# Altium integrated library mbed_programmer.IntLib: 63 symbols
Pins are listed as number, name and electrical type; pins without a type are passive.

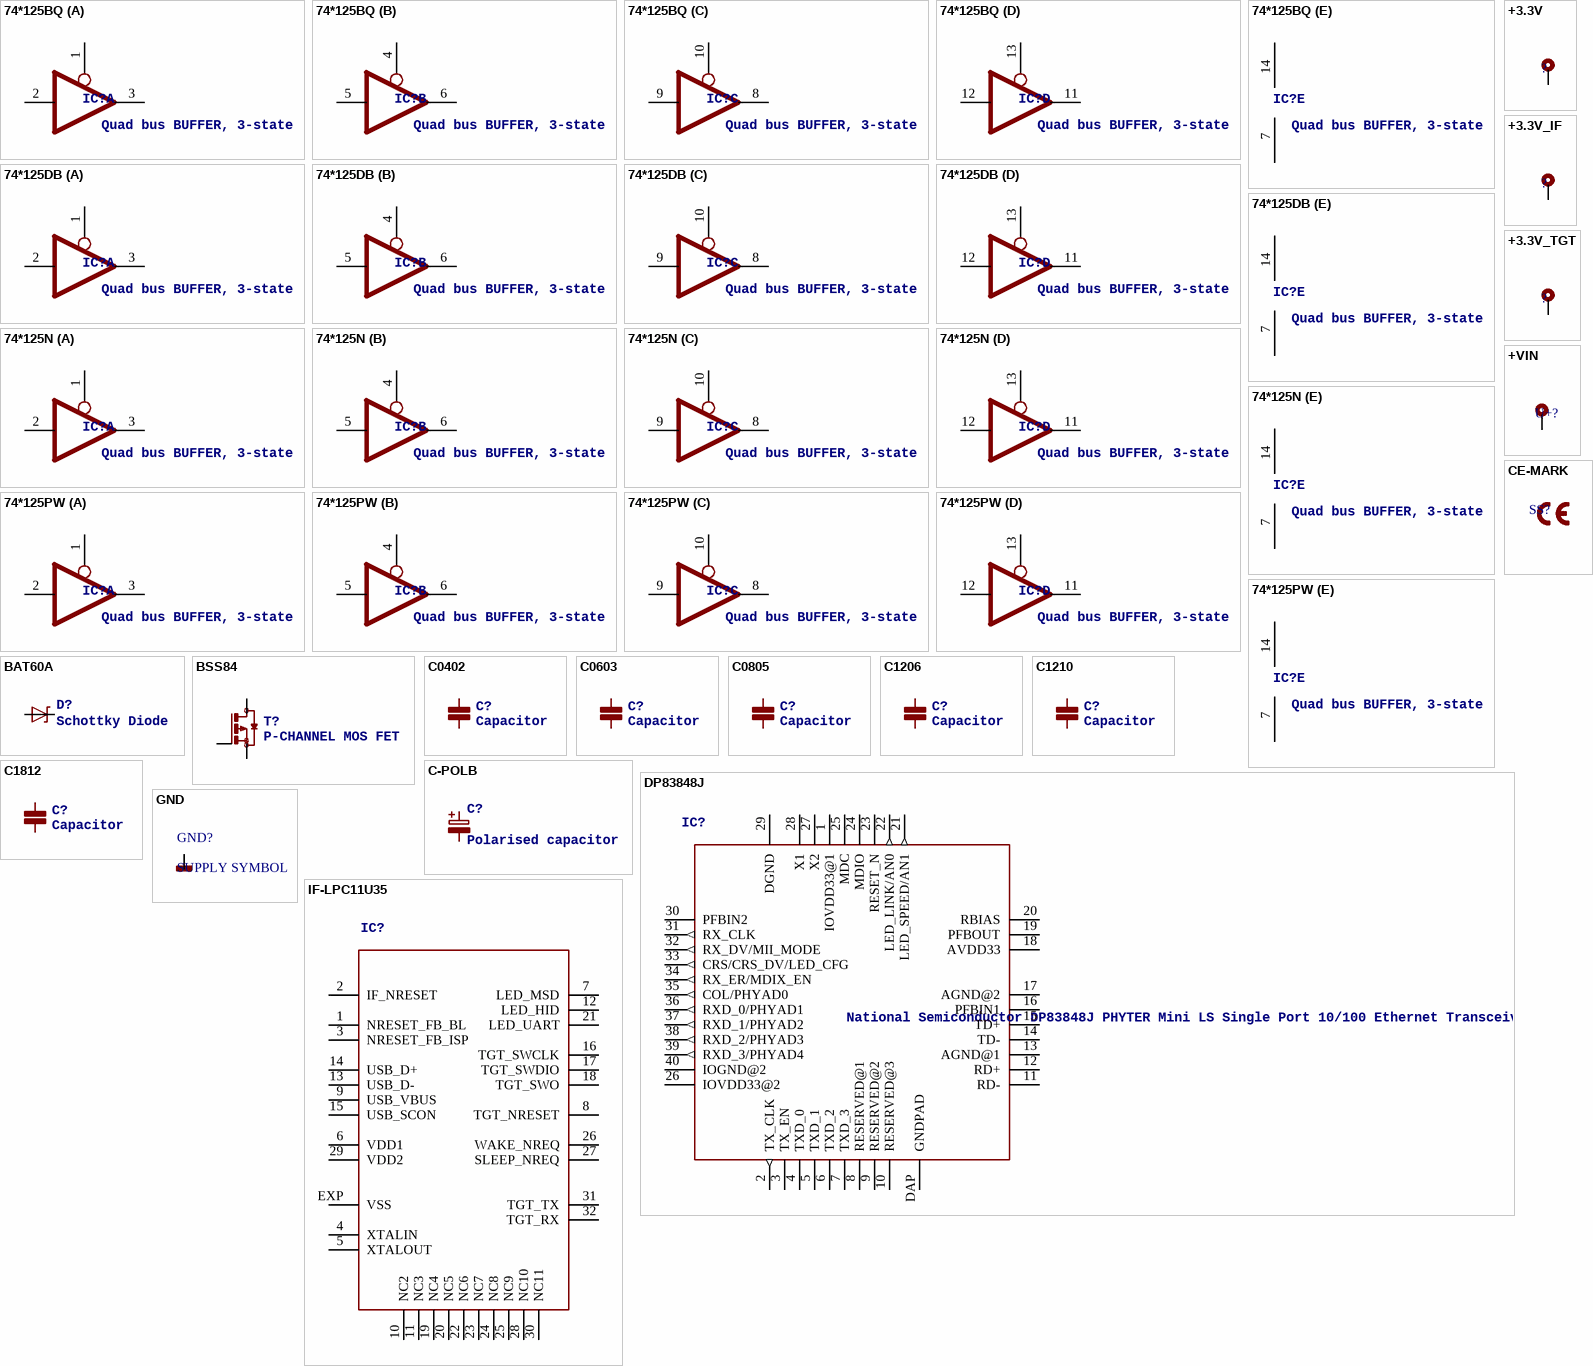
[diagram p0: symbols 74*125BQ to IF-LPC11U35]

## 74*125BQ
designator IC?, comment Quad bus BUFFER, 3-state
footprint DHVQFN14
part A pins: 1 OE, 2 I, 3 O (hiz)
part B pins: 4 OE, 5 I, 6 O (hiz)
part C pins: 8 O (hiz), 9 I, 10 OE
part D pins: 11 O (hiz), 12 I, 13 OE
part E pins: 7 GND (power), 14 VCC (power)

## 74*125DB
designator IC?, comment Quad bus BUFFER, 3-state
footprint SSOP14
part A pins: 1 OE, 2 I, 3 O (hiz)
part B pins: 4 OE, 5 I, 6 O (hiz)
part C pins: 8 O (hiz), 9 I, 10 OE
part D pins: 11 O (hiz), 12 I, 13 OE
part E pins: 7 GND (power), 14 VCC (power)

## 74*125N
designator IC?, comment Quad bus BUFFER, 3-state
footprint DIL14
part A pins: 1 OE, 2 I, 3 O (hiz)
part B pins: 4 OE, 5 I, 6 O (hiz)
part C pins: 8 O (hiz), 9 I, 10 OE
part D pins: 11 O (hiz), 12 I, 13 OE
part E pins: 7 GND (power), 14 VCC (power)

## 74*125PW
designator IC?, comment Quad bus BUFFER, 3-state
footprint TSSOP14
part A pins: 1 OE, 2 I, 3 O (hiz)
part B pins: 4 OE, 5 I, 6 O (hiz)
part C pins: 8 O (hiz), 9 I, 10 OE
part D pins: 11 O (hiz), 12 I, 13 OE
part E pins: 7 GND (power), 14 VCC (power)

## +3.3V
designator ?
pins: ?1 +3,3V (oe)

## +3.3V_IF
designator ?
pins: ?1 +3.3V_IF (oe)

## +3.3V_TGT
designator ?
pins: ?1 +3.3V_TGT (oe)

## +VIN
designator U+?
pins: ?1 +VIN (oe)

## BAT60A
designator D?, comment Schottky Diode
footprint BAT60A
pins: A, K

## BSS84
designator T?, comment P-CHANNEL MOS FET
footprint SOT23
pins: 1 G, 2 S, 3 D

## C0402
designator C?, comment Capacitor
footprint 0402
pins: 1 P$1, 2 P$2

## C0603
designator C?, comment Capacitor
footprint 0603
pins: 1 P$1, 2 P$2

## C0805
designator C?, comment Capacitor
footprint 0805
pins: 1 P$1, 2 P$2

## C1206
designator C?, comment Capacitor
footprint C1206
pins: 1 P$1, 2 P$2

## C1210
designator C?, comment Capacitor
footprint C1210
pins: 1 P$1, 2 P$2

## C1812
designator C?, comment Capacitor
footprint C1812
pins: 1 P$1, 2 P$2

## C-POLB
designator C?, comment Polarised capacitor
footprint CASE-B
pins: 1, 2

## CE-MARK
designator SS?
footprint CE-MARK-0.2

## DP83848J
designator IC?, comment National Semiconductor DP83848J PHYTER Mini LS Single Port 10/100 Ethernet Transceiver
footprint LLP-40
pins: 1 IOVDD33@1 (power), 2 TX_CLK (out), 3 TX_EN, 4 TXD_0, 5 TXD_1, 6 TXD_2, 7 TXD_3, 8 RESERVED@1, 9 RESERVED@2, 10 RESERVED@3, 11 RD-, 12 RD+, 13 AGND@1 (power), 14 TD-, 15 TD+, 16 PFBIN1, 17 AGND@2 (power), 18 AVDD33 (power), 19 PFBOUT, 20 RBIAS, 21 LED_SPEED/AN1 (out), 22 LED_LINK/AN0 (out), 23 RESET_N, 24 MDIO, 25 MDC, 26 IOVDD33@2 (power), 27 X2, 28 X1, 29 DGND (power), 30 PFBIN2, 31 RX_CLK (out), 32 RX_DV/MII_MODE (out), 33 CRS/CRS_DV/LED_CFG (out), 34 RX_ER/MDIX_EN (out), 35 COL/PHYAD0 (out), 36 RXD_0/PHYAD1 (out), 37 RXD_1/PHYAD2 (out), 38 RXD_2/PHYAD3 (out), 39 RXD_3/PHYAD4 (out), 40 IOGND@2 (power), DAP GNDPAD (power)

## GND
designator GND?, comment SUPPLY SYMBOL
pins: ?1 GND (oe)

## IF-LPC11U35
designator IC?
footprint HVQFN33
pins: 1 NRESET_FB_BL, 2 IF_NRESET, 3 NRESET_FB_ISP, 4 XTALIN, 5 XTALOUT, 6 VDD1, 7 LED_MSD, 8 TGT_NRESET, 9 USB_VBUS, 10 NC2, 11 NC3, 12 LED_HID, 13 USB_D-, 14 USB_D+, 15 USB_SCON, 16 TGT_SWCLK, 17 TGT_SWDIO, 18 TGT_SWO, 19 NC4, 20 NC5, 21 LED_UART, 22 NC6, 23 NC7, 24 NC8, 25 NC9, 26 WAKE_NREQ, 27 SLEEP_NREQ, 28 NC10, 29 VDD2, 30 NC11, 31 TGT_TX, 32 TGT_RX, EXP VSS

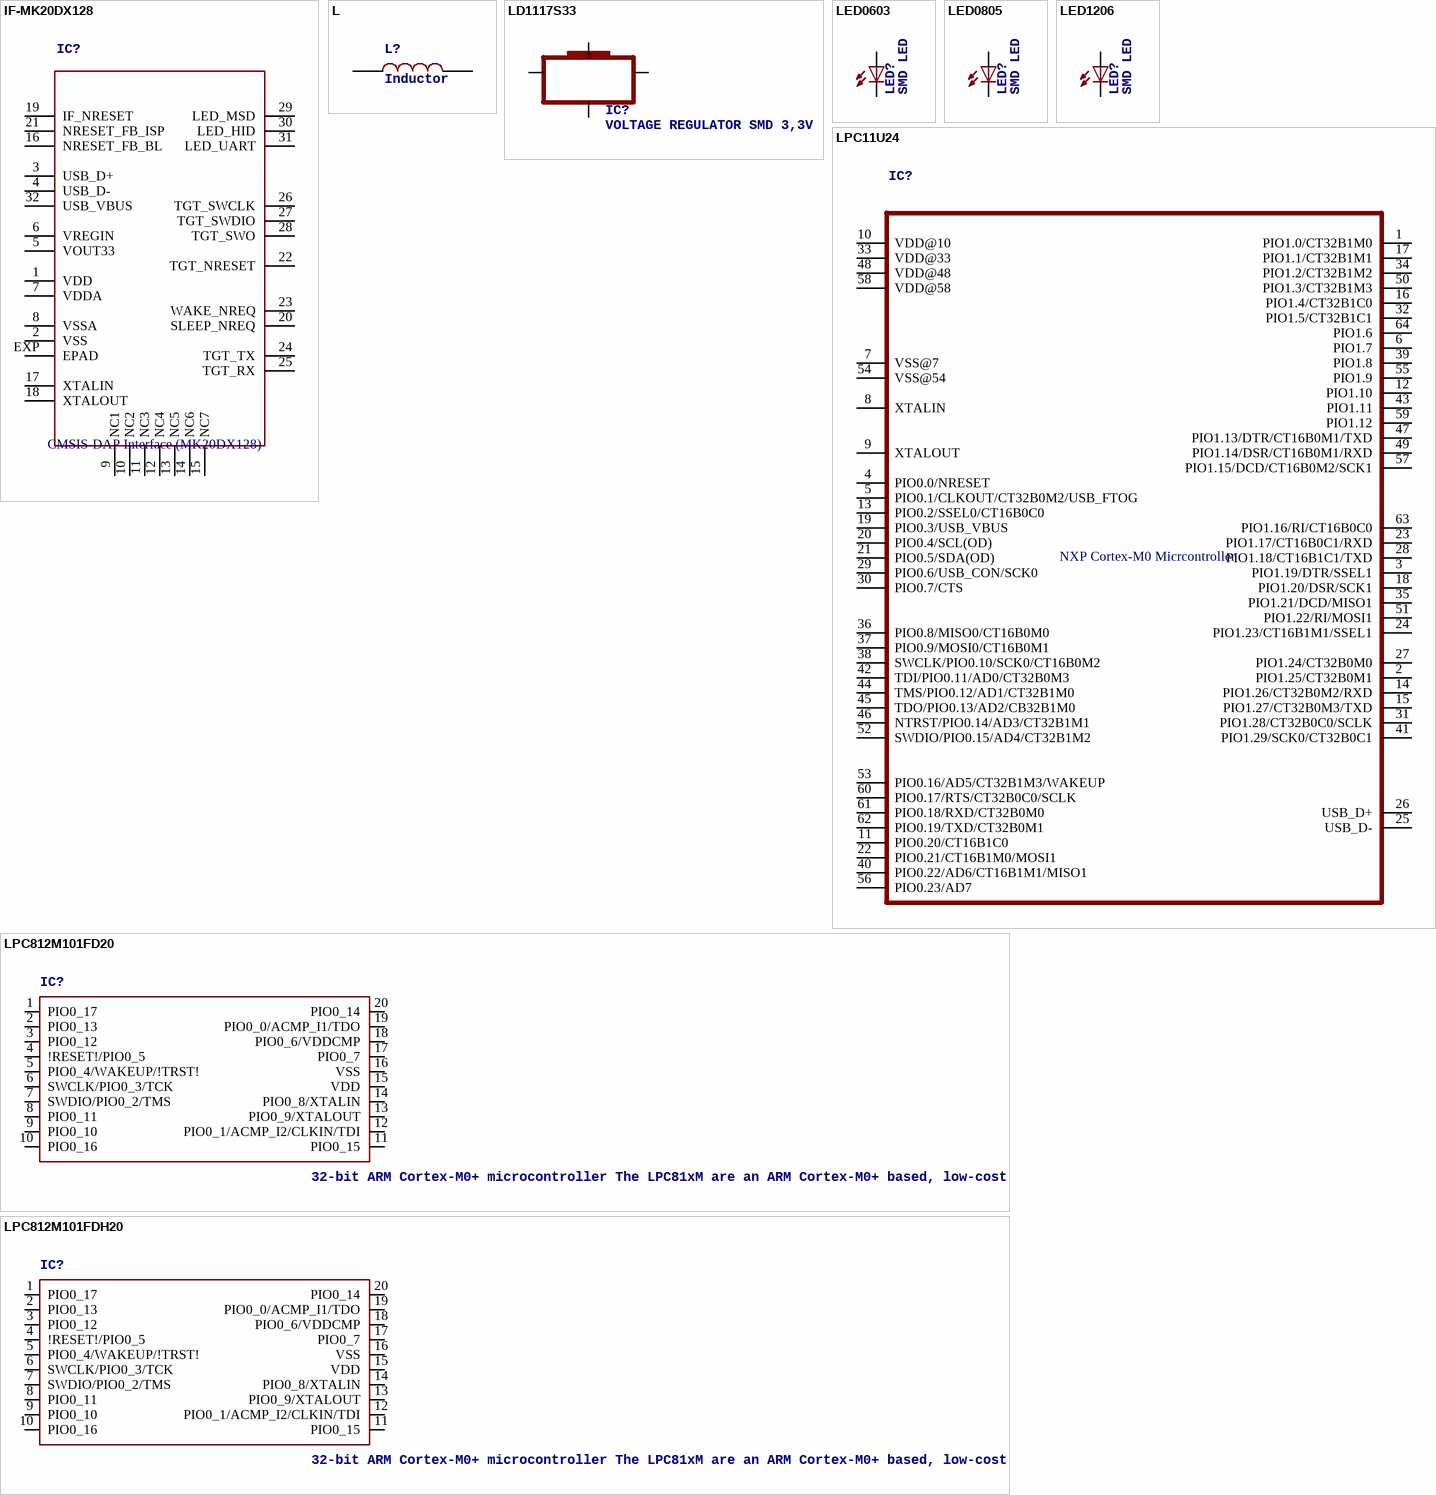
[diagram p1: symbols IF-MK20DX128 to LPC812M101FDH20]

## IF-MK20DX128
designator IC?, comment CMSIS-DAP Interface (MK20DX128)
footprint HVQFN33
pins: 1 VDD, 2 VSS, 3 USB_D+, 4 USB_D-, 5 VOUT33, 6 VREGIN, 7 VDDA, 8 VSSA, 9 NC1, 10 NC2, 11 NC3, 12 NC4, 13 NC5, 14 NC6, 15 NC7, 16 NRESET_FB_BL, 17 XTALIN, 18 XTALOUT, 19 IF_NRESET, 20 SLEEP_NREQ, 21 NRESET_FB_ISP, 22 TGT_NRESET, 23 WAKE_NREQ, 24 TGT_TX, 25 TGT_RX, 26 TGT_SWCLK, 27 TGT_SWDIO, 28 TGT_SWO, 29 LED_MSD, 30 LED_HID, 31 LED_UART, 32 USB_VBUS, EXP EPAD

## L
designator L?, comment Inductor
footprint 0603
pins: 1 P$1, 2 P$2

## LD1117S33
designator IC?, comment VOLTAGE REGULATOR SMD 3,3V
footprint SOT223
pins: 1 GND, 2 OUT, 3 IN, 4 K

## LED0603
designator LED?, comment SMD LED
footprint CHIPLED_0603
pins: A, C

## LED0805
designator LED?, comment SMD LED
footprint CHIPLED_0805
pins: A, C

## LED1206
designator LED?, comment SMD LED
footprint CHIPLED_1206
pins: A, C

## LPC11U24
designator IC?, comment NXP Cortex-M0 Micrcontroller
footprint MBED-ICS_LQFP64
pins: 1 PIO1.0/CT32B1M0, 2 PIO1.25/CT32B0M1, 3 PIO1.19/DTR/SSEL1, 4 PIO0.0/NRESET, 5 PIO0.1/CLKOUT/CT32B0M2/USB_FTOG, 6 PIO1.7, 7 VSS@7, 8 XTALIN, 9 XTALOUT, 10 VDD@10, 11 PIO0.20/CT16B1C0, 12 PIO1.10, 13 PIO0.2/SSEL0/CT16B0C0, 14 PIO1.26/CT32B0M2/RXD, 15 PIO1.27/CT32B0M3/TXD, 16 PIO1.4/CT32B1C0, 17 PIO1.1/CT32B1M1, 18 PIO1.20/DSR/SCK1, 19 PIO0.3/USB_VBUS, 20 PIO0.4/SCL(OD), 21 PIO0.5/SDA(OD), 22 PIO0.21/CT16B1M0/MOSI1, 23 PIO1.17/CT16B0C1/RXD, 24 PIO1.23/CT16B1M1/SSEL1, 25 USB_D-, 26 USB_D+, 27 PIO1.24/CT32B0M0, 28 PIO1.18/CT16B1C1/TXD, 29 PIO0.6/USB_CON/SCK0, 30 PIO0.7/CTS, 31 PIO1.28/CT32B0C0/SCLK, 32 PIO1.5/CT32B1C1, 33 VDD@33, 34 PIO1.2/CT32B1M2, 35 PIO1.21/DCD/MISO1, 36 PIO0.8/MISO0/CT16B0M0, 37 PIO0.9/MOSI0/CT16B0M1, 38 SWCLK/PIO0.10/SCK0/CT16B0M2, 39 PIO1.8, 40 PIO0.22/AD6/CT16B1M1/MISO1, 41 PIO1.29/SCK0/CT32B0C1, 42 TDI/PIO0.11/AD0/CT32B0M3, 43 PIO1.11, 44 TMS/PIO0.12/AD1/CT32B1M0, 45 TDO/PIO0.13/AD2/CB32B1M0, 46 NTRST/PIO0.14/AD3/CT32B1M1, 47 PIO1.13/DTR/CT16B0M1/TXD, 48 VDD@48, 49 PIO1.14/DSR/CT16B0M1/RXD, 50 PIO1.3/CT32B1M3, 51 PIO1.22/RI/MOSI1, 52 SWDIO/PIO0.15/AD4/CT32B1M2, 53 PIO0.16/AD5/CT32B1M3/WAKEUP, 54 VSS@54, 55 PIO1.9, 56 PIO0.23/AD7, 57 PIO1.15/DCD/CT16B0M2/SCK1, 58 VDD@58, 59 PIO1.12, 60 PIO0.17/RTS/CT32B0C0/SCLK, 61 PIO0.18/RXD/CT32B0M0, 62 PIO0.19/TXD/CT32B0M1, 63 PIO1.16/RI/CT16B0C0, 64 PIO1.6

## LPC812M101FD20
designator IC?, comment 32-bit ARM Cortex-M0+ microcontroller The LPC81xM are an ARM Cortex-M0+ based, low-cost 32-bit MCU family operating at CPU frequencies of up to 30 MHz. The LPC81xM support up to 16 kB of flash memory and 4 kB of SRAM. The peripheral complement of the LPC81xM includes a CRC engine, one I 2 C-bus interface, up to three USARTs, up to two SPI interfaces, one multi-rate timer, self wake-up timer, and state-configurable timer, one comparator, function-configurable I/O ports through a switch matrix, an input pattern match engine, and up to 18 general-purpose I/O pins.    AAL Eindhoven MK
COMP: 1; FLASH: 16k; GPIO: 18; SRAM: 4k; USART: 2; I2C: 1; SPI: 1
footprint SOT163-1
pins: 1 PIO0_17, 2 PIO0_13, 3 PIO0_12, 4 !RESET!/PIO0_5, 5 PIO0_4/WAKEUP/!TRST!, 6 SWCLK/PIO0_3/TCK, 7 SWDIO/PIO0_2/TMS, 8 PIO0_11, 9 PIO0_10, 10 PIO0_16, 11 PIO0_15, 12 PIO0_1/ACMP_I2/CLKIN/TDI, 13 PIO0_9/XTALOUT, 14 PIO0_8/XTALIN, 15 VDD (power), 16 VSS (power), 17 PIO0_7, 18 PIO0_6/VDDCMP, 19 PIO0_0/ACMP_I1/TDO, 20 PIO0_14

## LPC812M101FDH20
designator IC?, comment 32-bit ARM Cortex-M0+ microcontroller The LPC81xM are an ARM Cortex-M0+ based, low-cost 32-bit MCU family operating at CPU frequencies of up to 30 MHz. The LPC81xM support up to 16 kB of flash memory and 4 kB of SRAM. The peripheral complement of the LPC81xM includes a CRC engine, one I 2 C-bus interface, up to three USARTs, up to two SPI interfaces, one multi-rate timer, self wake-up timer, and state-configurable timer, one comparator, function-configurable I/O ports through a switch matrix, an input pattern match engine, and up to 18 general-purpose I/O pins.    AAL Eindhoven MK
COMP: 1; FLASH: 16k; GPIO: 18; SPI: 2; SRAM: 4k; USART: 3; I2C: 1
footprint SOT360
pins: 1 PIO0_17, 2 PIO0_13, 3 PIO0_12, 4 !RESET!/PIO0_5, 5 PIO0_4/WAKEUP/!TRST!, 6 SWCLK/PIO0_3/TCK, 7 SWDIO/PIO0_2/TMS, 8 PIO0_11, 9 PIO0_10, 10 PIO0_16, 11 PIO0_15, 12 PIO0_1/ACMP_I2/CLKIN/TDI, 13 PIO0_9/XTALOUT, 14 PIO0_8/XTALIN, 15 VDD (power), 16 VSS (power), 17 PIO0_7, 18 PIO0_6/VDDCMP, 19 PIO0_0/ACMP_I1/TDO, 20 PIO0_14

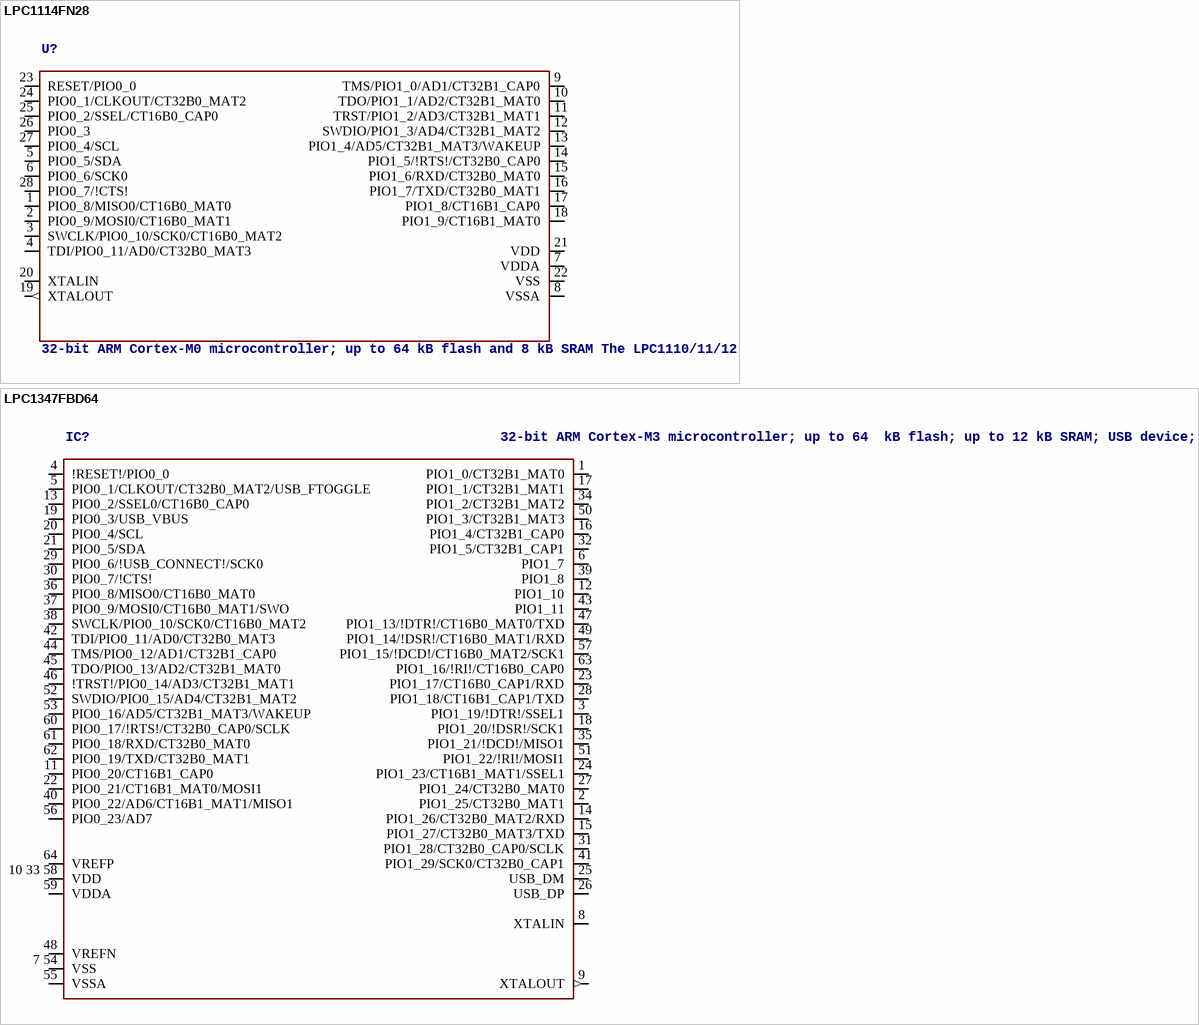
[diagram p2: symbols LPC1114FN28 to LPC1347FBD64]

## LPC1114FN28
designator U?, comment 32-bit ARM Cortex-M0 microcontroller; up to 64 kB flash and 8 kB SRAM The LPC1110/11/12/13/14/15 are a ARM Cortex-M0 based, low-cost 32-bit MCU family, designed for 8/16-bit microcontroller applications, offering performance, low power, simple instruction set and memory addressing together with reduced code size compared to existing 8/16-bit architectures. The LPC1110/11/12/13/14/15 operate at CPU frequencies of up to 50 MHz. The peripheral complement of the LPC1110/11/12/13/14/15 includes up to 64 kB of flash memory, up to 8 kB of data memory, one Fast-mode Plus I 2 C-bus interface, one RS-485/EIA-485 UART, up to two SPI interfaces with SSP features, four general purpose counter/timers, a 10-bit ADC, and up to 42 general purpose I/O pins. Remark: The LPC111x series consists of the LPC1100 series (parts LPC111x/101/201/301), LPC1100L series (parts LPC111x/002/102/202/302), and the LPC1100XL series (parts LPC111x/103/203/303/323/333). The LPC1100L and LPC1100XL series include the power profiles, a windowed watchdog timer, and a configurable open-drain mode.    AAL Eindhoven MK
ADC: 6; FLASH: 32kB; GPIO: 22; PWR_PROFILES: yes; SPI: 1; SRAM: 4kB; SERIES: LPC1100L
footprint SOT117
pins: 1 PIO0_8/MISO0/CT16B0_MAT0, 2 PIO0_9/MOSI0/CT16B0_MAT1, 3 SWCLK/PIO0_10/SCK0/CT16B0_MAT2, 4 TDI/PIO0_11/AD0/CT32B0_MAT3, 5 PIO0_5/SDA, 6 PIO0_6/SCK0, 7 VDDA (power), 8 VSSA (power), 9 TMS/PIO1_0/AD1/CT32B1_CAP0, 10 TDO/PIO1_1/AD2/CT32B1_MAT0, 11 TRST/PIO1_2/AD3/CT32B1_MAT1, 12 SWDIO/PIO1_3/AD4/CT32B1_MAT2, 13 PIO1_4/AD5/CT32B1_MAT3/WAKEUP, 14 PIO1_5/!RTS!/CT32B0_CAP0, 15 PIO1_6/RXD/CT32B0_MAT0, 16 PIO1_7/TXD/CT32B0_MAT1, 17 PIO1_8/CT16B1_CAP0, 18 PIO1_9/CT16B1_MAT0, 19 XTALOUT (out), 20 XTALIN, 21 VDD (power), 22 VSS (power), 23 RESET/PIO0_0, 24 PIO0_1/CLKOUT/CT32B0_MAT2, 25 PIO0_2/SSEL/CT16B0_CAP0, 26 PIO0_3, 27 PIO0_4/SCL, 28 PIO0_7/!CTS!

## LPC1347FBD64
designator IC?, comment 32-bit ARM Cortex-M3 microcontroller; up to 64  kB flash; up to 12 kB SRAM; USB device; USART; EEPROM The LPC1315/16/17/45/46/47 are ARM Cortex-M3 based microcontrollers for embedded applications featuring a high level of integration and low power consumption. The ARM Cortex-M3 is a next generation core that offers system enhancements such as enhanced debug features and a higher level of support block integration. The LPC1315/16/17/45/46/47 operate at CPU frequencies of up to 72 MHz. The ARM Cortex-M3 CPU incorporates a 3-stage pipeline and uses a Harvard architecture with separate local instruction and data buses as well as a third bus for peripherals. The ARM Cortex-M3 CPU also includes an internal prefetch unit that supports speculative branching. Equipped with a highly flexible and configurable Full-Speed USB 2.0 device controller available on the LPC1345/46/47, this series brings unparalleled design flexibility and seamless integration to today’s demanding connectivity solutions. The peripheral complement of the LPC1315/16/17/45/46/47 includes up to 64 kB of flash memory, 8 kB or 10 kB of SRAM data memory, one Fast-mode Plus I 2 C-bus interface, one RS-485/EIA-485 USART with support for synchronous mode and smart card interface, two SSP interfaces, four general purpose counter/timers, an 8-channel, 12-bit ADC, and up to 51 general purpose I/O pins.    AAL Eindhoven MK
EEPROM: 4kB; FLASH: 64kB; GPIO: 51; SRAM0: 8kB; SRAM1: 2kB; USB: yes; SRAM_USB: 2kB
footprint SOT314-2
pins: 1 PIO1_0/CT32B1_MAT0, 2 PIO1_25/CT32B0_MAT1, 3 PIO1_19/!DTR!/SSEL1, 4 !RESET!/PIO0_0, 5 PIO0_1/CLKOUT/CT32B0_MAT2/USB_FTOGGLE, 6 PIO1_7, 7 54 VSS (power), 8 XTALIN, 9 XTALOUT (out), 10 33 58 VDD (power), 11 PIO0_20/CT16B1_CAP0, 12 PIO1_10, 13 PIO0_2/SSEL0/CT16B0_CAP0, 14 PIO1_26/CT32B0_MAT2/RXD, 15 PIO1_27/CT32B0_MAT3/TXD, 16 PIO1_4/CT32B1_CAP0, 17 PIO1_1/CT32B1_MAT1, 18 PIO1_20/!DSR!/SCK1, 19 PIO0_3/USB_VBUS, 20 PIO0_4/SCL, 21 PIO0_5/SDA, 22 PIO0_21/CT16B1_MAT0/MOSI1, 23 PIO1_17/CT16B0_CAP1/RXD, 24 PIO1_23/CT16B1_MAT1/SSEL1, 25 USB_DM, 26 USB_DP, 27 PIO1_24/CT32B0_MAT0, 28 PIO1_18/CT16B1_CAP1/TXD, 29 PIO0_6/!USB_CONNECT!/SCK0, 30 PIO0_7/!CTS!, 31 PIO1_28/CT32B0_CAP0/SCLK, 32 PIO1_5/CT32B1_CAP1, 34 PIO1_2/CT32B1_MAT2, 35 PIO1_21/!DCD!/MISO1, 36 PIO0_8/MISO0/CT16B0_MAT0, 37 PIO0_9/MOSI0/CT16B0_MAT1/SWO, 38 SWCLK/PIO0_10/SCK0/CT16B0_MAT2, 39 PIO1_8, 40 PIO0_22/AD6/CT16B1_MAT1/MISO1, 41 PIO1_29/SCK0/CT32B0_CAP1, 42 TDI/PIO0_11/AD0/CT32B0_MAT3, 43 PIO1_11, 44 TMS/PIO0_12/AD1/CT32B1_CAP0, 45 TDO/PIO0_13/AD2/CT32B1_MAT0, 46 !TRST!/PIO0_14/AD3/CT32B1_MAT1, 47 PIO1_13/!DTR!/CT16B0_MAT0/TXD, 48 VREFN (power), 49 PIO1_14/!DSR!/CT16B0_MAT1/RXD, 50 PIO1_3/CT32B1_MAT3, 51 PIO1_22/!RI!/MOSI1, 52 SWDIO/PIO0_15/AD4/CT32B1_MAT2, 53 PIO0_16/AD5/CT32B1_MAT3/WAKEUP, 55 VSSA (power), 56 PIO0_23/AD7, 57 PIO1_15/!DCD!/CT16B0_MAT2/SCK1, 59 VDDA (power), 60 PIO0_17/!RTS!/CT32B0_CAP0/SCLK, 61 PIO0_18/RXD/CT32B0_MAT0, 62 PIO0_19/TXD/CT32B0_MAT1, 63 PIO1_16/!RI!/CT16B0_CAP0, 64 VREFP (power)

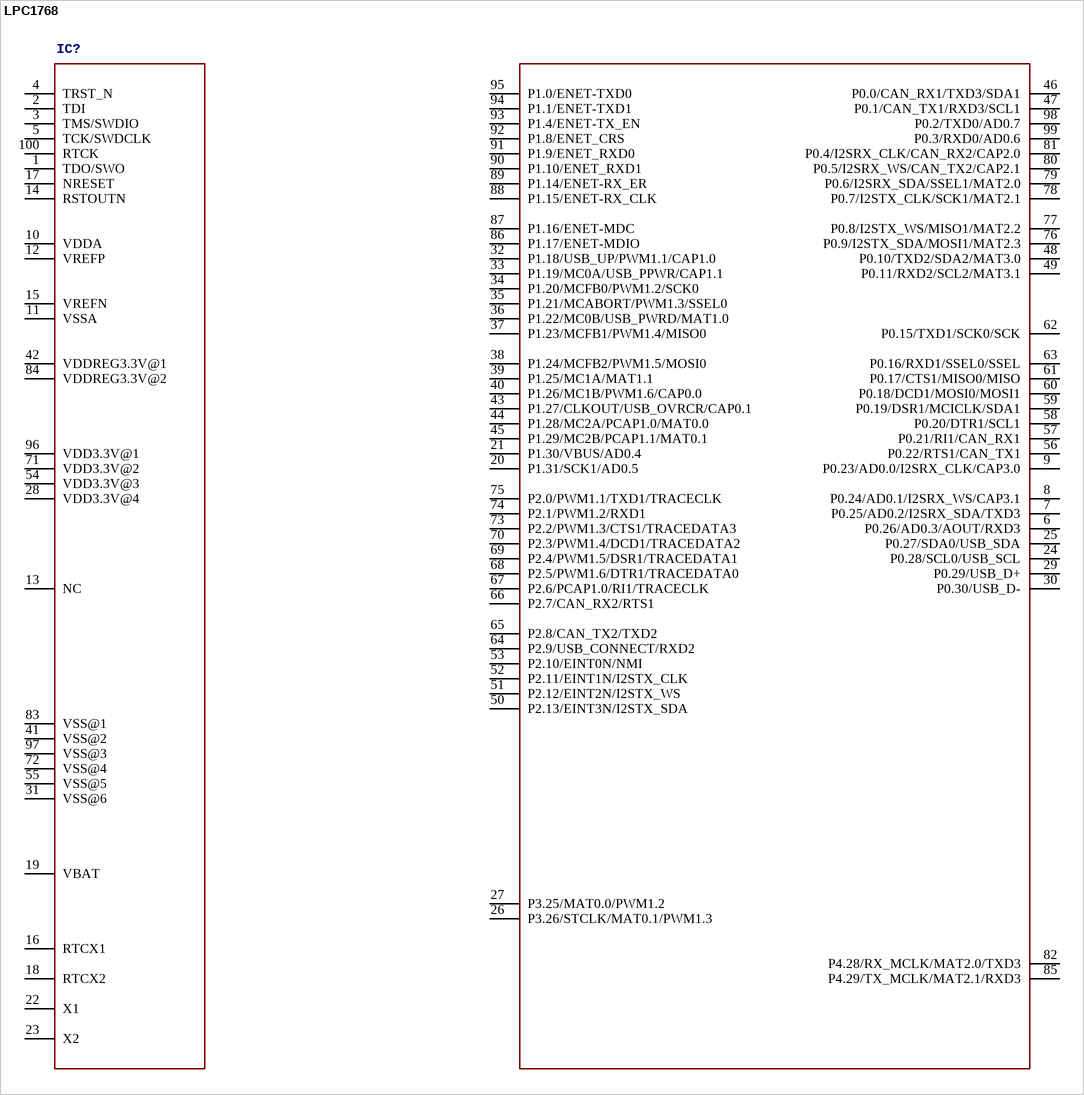
[diagram p3: symbol LPC1768]

## LPC1768
designator IC?
footprint LQFP100
pins: 1 TDO/SWO, 2 TDI, 3 TMS/SWDIO, 4 TRST_N, 5 TCK/SWDCLK, 6 P0.26/AD0.3/AOUT/RXD3, 7 P0.25/AD0.2/I2SRX_SDA/TXD3, 8 P0.24/AD0.1/I2SRX_WS/CAP3.1, 9 P0.23/AD0.0/I2SRX_CLK/CAP3.0, 10 VDDA, 11 VSSA, 12 VREFP, 13 NC, 14 RSTOUTN, 15 VREFN, 16 RTCX1, 17 NRESET, 18 RTCX2, 19 VBAT, 20 P1.31/SCK1/AD0.5, 21 P1.30/VBUS/AD0.4, 22 X1, 23 X2, 24 P0.28/SCL0/USB_SCL, 25 P0.27/SDA0/USB_SDA, 26 P3.26/STCLK/MAT0.1/PWM1.3, 27 P3.25/MAT0.0/PWM1.2, 28 VDD3.3V@4, 29 P0.29/USB_D+, 30 P0.30/USB_D-, 31 VSS@6, 32 P1.18/USB_UP/PWM1.1/CAP1.0, 33 P1.19/MC0A/USB_PPWR/CAP1.1, 34 P1.20/MCFB0/PWM1.2/SCK0, 35 P1.21/MCABORT/PWM1.3/SSEL0, 36 P1.22/MC0B/USB_PWRD/MAT1.0, 37 P1.23/MCFB1/PWM1.4/MISO0, 38 P1.24/MCFB2/PWM1.5/MOSI0, 39 P1.25/MC1A/MAT1.1, 40 P1.26/MC1B/PWM1.6/CAP0.0, 41 VSS@2, 42 VDDREG3.3V@1, 43 P1.27/CLKOUT/USB_OVRCR/CAP0.1, 44 P1.28/MC2A/PCAP1.0/MAT0.0, 45 P1.29/MC2B/PCAP1.1/MAT0.1, 46 P0.0/CAN_RX1/TXD3/SDA1, 47 P0.1/CAN_TX1/RXD3/SCL1, 48 P0.10/TXD2/SDA2/MAT3.0, 49 P0.11/RXD2/SCL2/MAT3.1, 50 P2.13/EINT3N/I2STX_SDA, 51 P2.12/EINT2N/I2STX_WS, 52 P2.11/EINT1N/I2STX_CLK, 53 P2.10/EINT0N/NMI, 54 VDD3.3V@3, 55 VSS@5, 56 P0.22/RTS1/CAN_TX1, 57 P0.21/RI1/CAN_RX1, 58 P0.20/DTR1/SCL1, 59 P0.19/DSR1/MCICLK/SDA1, 60 P0.18/DCD1/MOSI0/MOSI1, 61 P0.17/CTS1/MISO0/MISO, 62 P0.15/TXD1/SCK0/SCK, 63 P0.16/RXD1/SSEL0/SSEL, 64 P2.9/USB_CONNECT/RXD2, 65 P2.8/CAN_TX2/TXD2, 66 P2.7/CAN_RX2/RTS1, 67 P2.6/PCAP1.0/RI1/TRACECLK, 68 P2.5/PWM1.6/DTR1/TRACEDATA0, 69 P2.4/PWM1.5/DSR1/TRACEDATA1, 70 P2.3/PWM1.4/DCD1/TRACEDATA2, 71 VDD3.3V@2, 72 VSS@4, 73 P2.2/PWM1.3/CTS1/TRACEDATA3, 74 P2.1/PWM1.2/RXD1, 75 P2.0/PWM1.1/TXD1/TRACECLK, 76 P0.9/I2STX_SDA/MOSI1/MAT2.3, 77 P0.8/I2STX_WS/MISO1/MAT2.2, 78 P0.7/I2STX_CLK/SCK1/MAT2.1, 79 P0.6/I2SRX_SDA/SSEL1/MAT2.0, 80 P0.5/I2SRX_WS/CAN_TX2/CAP2.1, 81 P0.4/I2SRX_CLK/CAN_RX2/CAP2.0, 82 P4.28/RX_MCLK/MAT2.0/TXD3, 83 VSS@1, 84 VDDREG3.3V@2, 85 P4.29/TX_MCLK/MAT2.1/RXD3, 86 P1.17/ENET-MDIO, 87 P1.16/ENET-MDC, 88 P1.15/ENET-RX_CLK, 89 P1.14/ENET-RX_ER, 90 P1.10/ENET_RXD1, 91 P1.9/ENET_RXD0, 92 P1.8/ENET_CRS, 93 P1.4/ENET-TX_EN, 94 P1.1/ENET-TXD1, 95 P1.0/ENET-TXD0, 96 VDD3.3V@1, 97 VSS@3, 98 P0.2/TXD0/AD0.7, 99 P0.3/RXD0/AD0.6, 100 RTCK

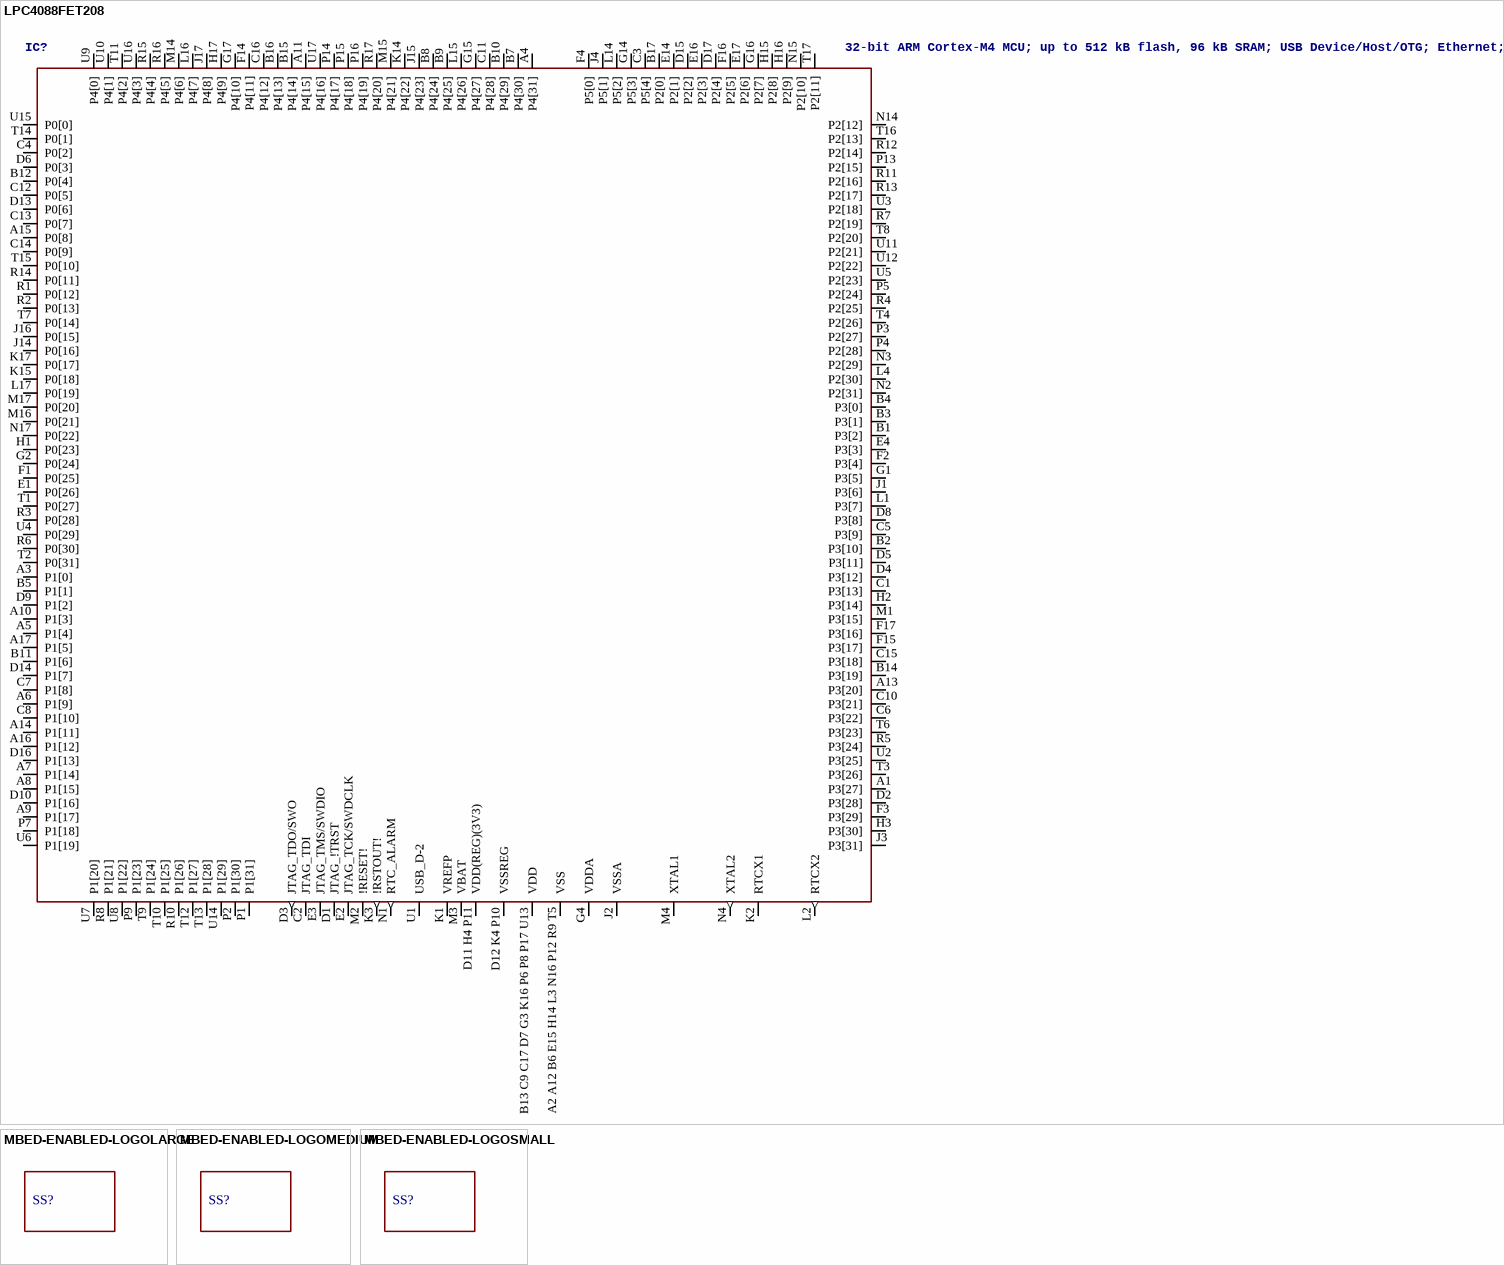
[diagram p4: symbols LPC4088FET208 to MBED-ENABLED-LOGOSMALL]

## LPC4088FET208
designator IC?, comment 32-bit ARM Cortex-M4 MCU; up to 512 kB flash, 96 kB SRAM; USB Device/Host/OTG; Ethernet; LCD; EMC; SPIFI The LPC408x/7x is an ARM Cortex-M4 based digital signal controller for embedded applications requiring a high level of integration and low power dissipation. The ARM Cortex-M4 is a next generation core that offers system enhancements such as low power consumption, enhanced debug features, and a high level of support block integration. The ARM Cortex-M4 CPU incorporates a 3-stage pipeline, uses a Harvard architecture with separate local instruction and data buses as well as a third bus for peripherals, and includes an internal prefetch unit that supports speculative branching. The ARM Cortex-M4 supports single-cycle digital signal processing and SIMD instructions. A hardware floating-point processor is integrated in the core for several versions of the part. The LPC408x/7x adds a specialized flash memory accelerator to accomplish optimal performance when executing code from flash. The LPC408x/7x is targeted to operate at up to 120 MHz CPU frequency. The peripheral complement of the LPC408x/7x includes up to 512 kB of flash program memory, up to 96 kB of SRAM data memory, up to 4032 byte of EEPROM data memory, External Memory controller (EMC), LCD, Ethernet, USB Device/Host/OTG, an SPI Flash Interface (SPIFI), a General Purpose DMA controller, five UARTs, three SSP controllers, three I 2 C-bus interfaces, a Quadrature Encoder Interface, four general purpose timers, two general purpose PWMs with six outputs each and one motor control PWM, an ultra-low power RTC with separate battery supply and event recorder, a windowed watchdog timer, a CRC calculation engine and up to 165 general purpose I/O pins. The analog peripherals include one eight-channel 12-bit ADC, two analog comparators, and a DAC. The pinout of LPC408x/7x is intended to allow pin function compatibility with the LPC24xx/23xx as well as the LPC178x/7x families.    AAL Eindhoven MK
footprint SOT950-1
pins: A1 P3[27], A2 A12 B6 E15 H14 L3 N16 P12 R9 T5 VSS (power), A3 P1[0], A4 P4[31], A5 P1[4], A6 P1[9], A7 P1[14], A8 P1[15], A9 P1[17], A10 P1[3], A11 P4[15], A13 P3[20], A14 P1[11], A15 P0[8], A16 P1[12], A17 P1[5], B1 P3[2], B2 P3[10], B3 P3[1], B4 P3[0], B5 P1[1], B7 P4[30], B8 P4[24], B9 P4[25], B10 P4[29], B11 P1[6], B12 P0[4], B13 C9 C17 D7 G3 K16 P6 P8 P17 U13 VDD (power), B14 P3[19], B15 P4[14], B16 P4[13], B17 P2[0], C1 P3[13], C2 JTAG_TDI, C3 P5[4], C4 P0[2], C5 P3[9], C6 P3[22], C7 P1[8], C8 P1[10], C10 P3[21], C11 P4[28], C12 P0[5], C13 P0[7], C14 P0[9], C15 P3[18], C16 P4[12], D1 JTAG_!TRST, D2 P3[28], D3 JTAG_TDO/SWO (out), D4 P3[12], D5 P3[11], D6 P0[3], D8 P3[8], D9 P1[2], D10 P1[16], D11 H4 P11 VDD(REG)(3V3) (power), D12 K4 P10 VSSREG (power), D13 P0[6], D14 P1[7], D15 P2[2], D16 P1[13], D17 P2[4], E1 P0[26], E2 JTAG_TCK/SWDCLK, E3 JTAG_TMS/SWDIO, E4 P3[3], E14 P2[1], E16 P2[3], E17 P2[6], F1 P0[25], F2 P3[4], F3 P3[29], F4 P5[0], F14 P4[11], F15 P3[17], F16 P2[5], F17 P3[16], G1 P3[5], G2 P0[24], G4 VDDA (power), G14 P5[3], G15 P4[27], G16 P2[7], G17 P4[10], H1 P0[23], H2 P3[14], H3 P3[30], H15 P2[8], H16 P2[9], H17 P4[9], J1 P3[6], J2 VSSA (power), J3 P3[31], J4 P5[1], J14 P0[16], J15 P4[23], J16 P0[15], J17 P4[8], K1 VREFP (power), K2 RTCX1, K3 !RSTOUT! (out), K14 P4[22], K15 P0[18], K17 P0[17], L1 P3[7], L2 RTCX2 (out), L4 P2[30], L14 P5[2], L15 P4[26], L16 P4[7], L17 P0[19], M1 P3[15], M2 !RESET!, M3 VBAT (power), M4 XTAL1, M14 P4[6], M15 P4[21], M16 P0[21], M17 P0[20], N1 RTC_ALARM (out), N2 P2[31], N3 P2[29], N4 XTAL2 (out), N14 P2[12], N15 P2[10], N17 P0[22], P1 P1[31], P2 P1[30], P3 P2[27], P4 P2[28], P5 P2[24], P7 P1[18], P9 P1[23], P13 P2[15], P14 P4[17], P15 P4[18], P16 P4[19], R1 P0[12], R2 P0[13], R3 P0[28], R4 P2[25], R5 P3[24], R6 P0[30], R7 P2[19], R8 P1[21], R10 P1[26], R11 P2[16], R12 P2[14], R13 P2[17], R14 P0[11], R15 P4[4], R16 P4[5], R17 P4[20], T1 P0[27], T2 P0[31], T3 P3[26], T4 P2[26], T6 P3[23], T7 P0[14], T8 P2[20], T9 P1[24], T10 P1[25], T11 P4[2], T12 P1[27], T13 P1[28], T14 P0[1], T15 P0[10], T16 P2[13], T17 P2[11], U1 USB_D-2, U2 P3[25], U3 P2[18], U4 P0[29], U5 P2[23], U6 P1[19], U7 P1[20], U8 P1[22], U9 P4[0], U10 P4[1], U11 P2[21], U12 P2[22], U14 P1[29], U15 P0[0], U16 P4[3], U17 P4[16]

## MBED-ENABLED-LOGOLARGE
designator SS?
footprint MBED-ENABLED-LOGO-1000X1000-MIL

## MBED-ENABLED-LOGOMEDIUM
designator SS?
footprint MBED-ENABLED-LOGO-500X500-MIL

## MBED-ENABLED-LOGOSMALL
designator SS?
footprint MBED-ENABLED-LOGO-250X250-MIL

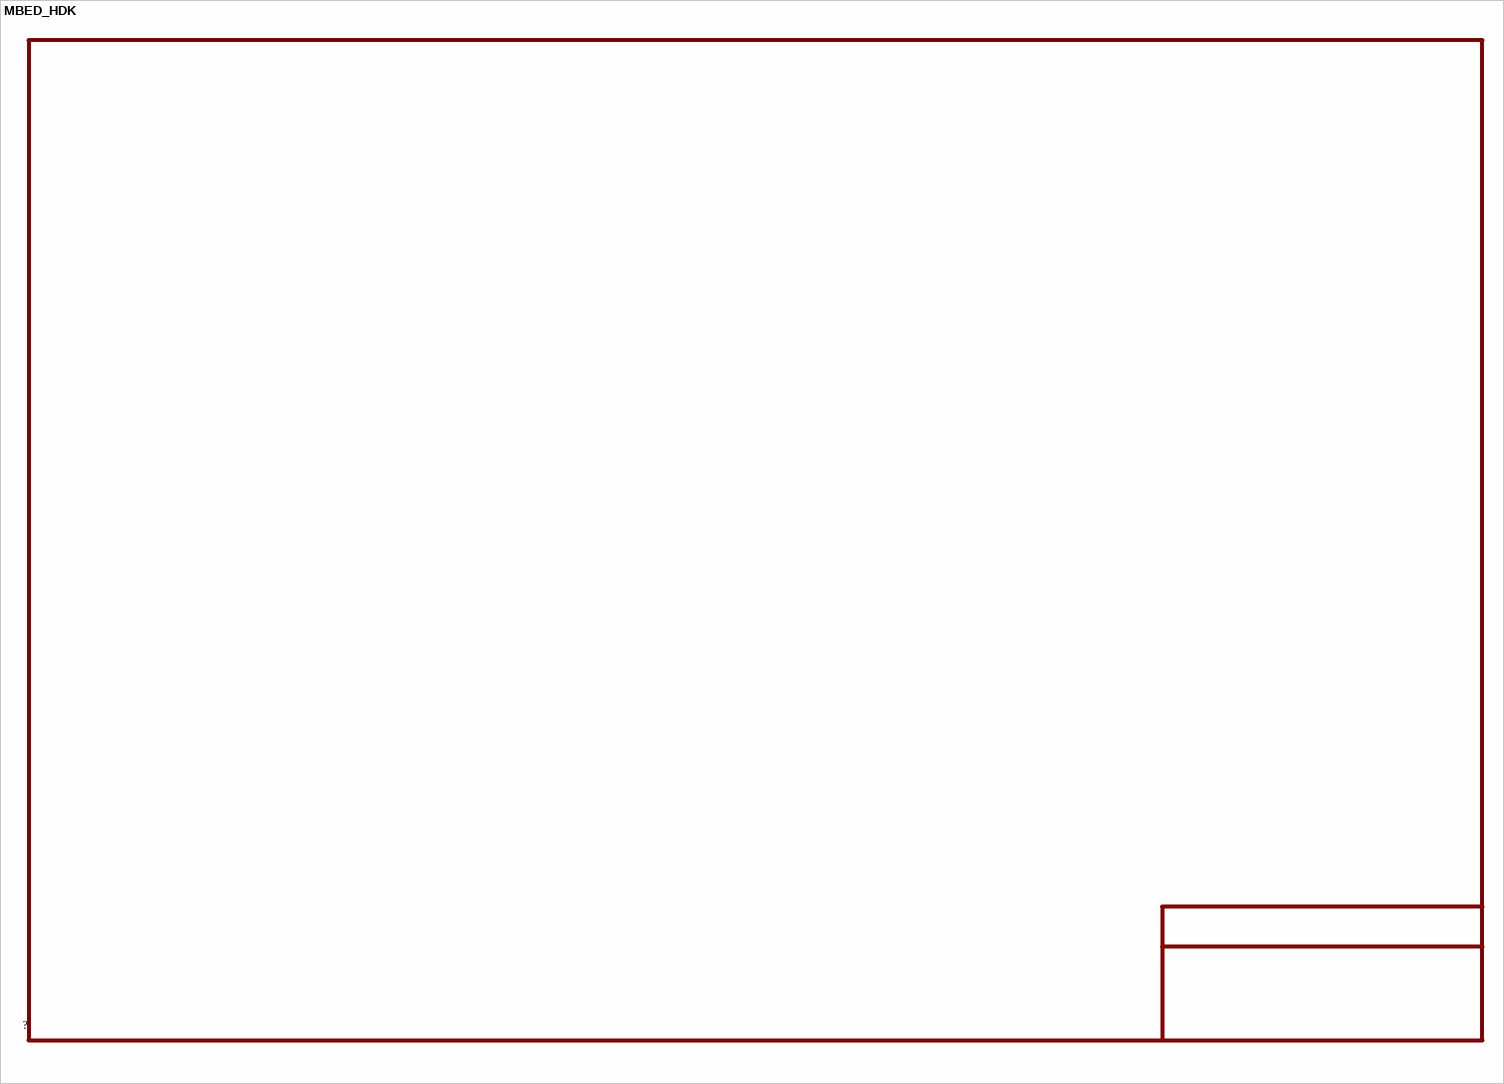
[diagram p5: symbol MBED_HDK]

## MBED_HDK
designator ?

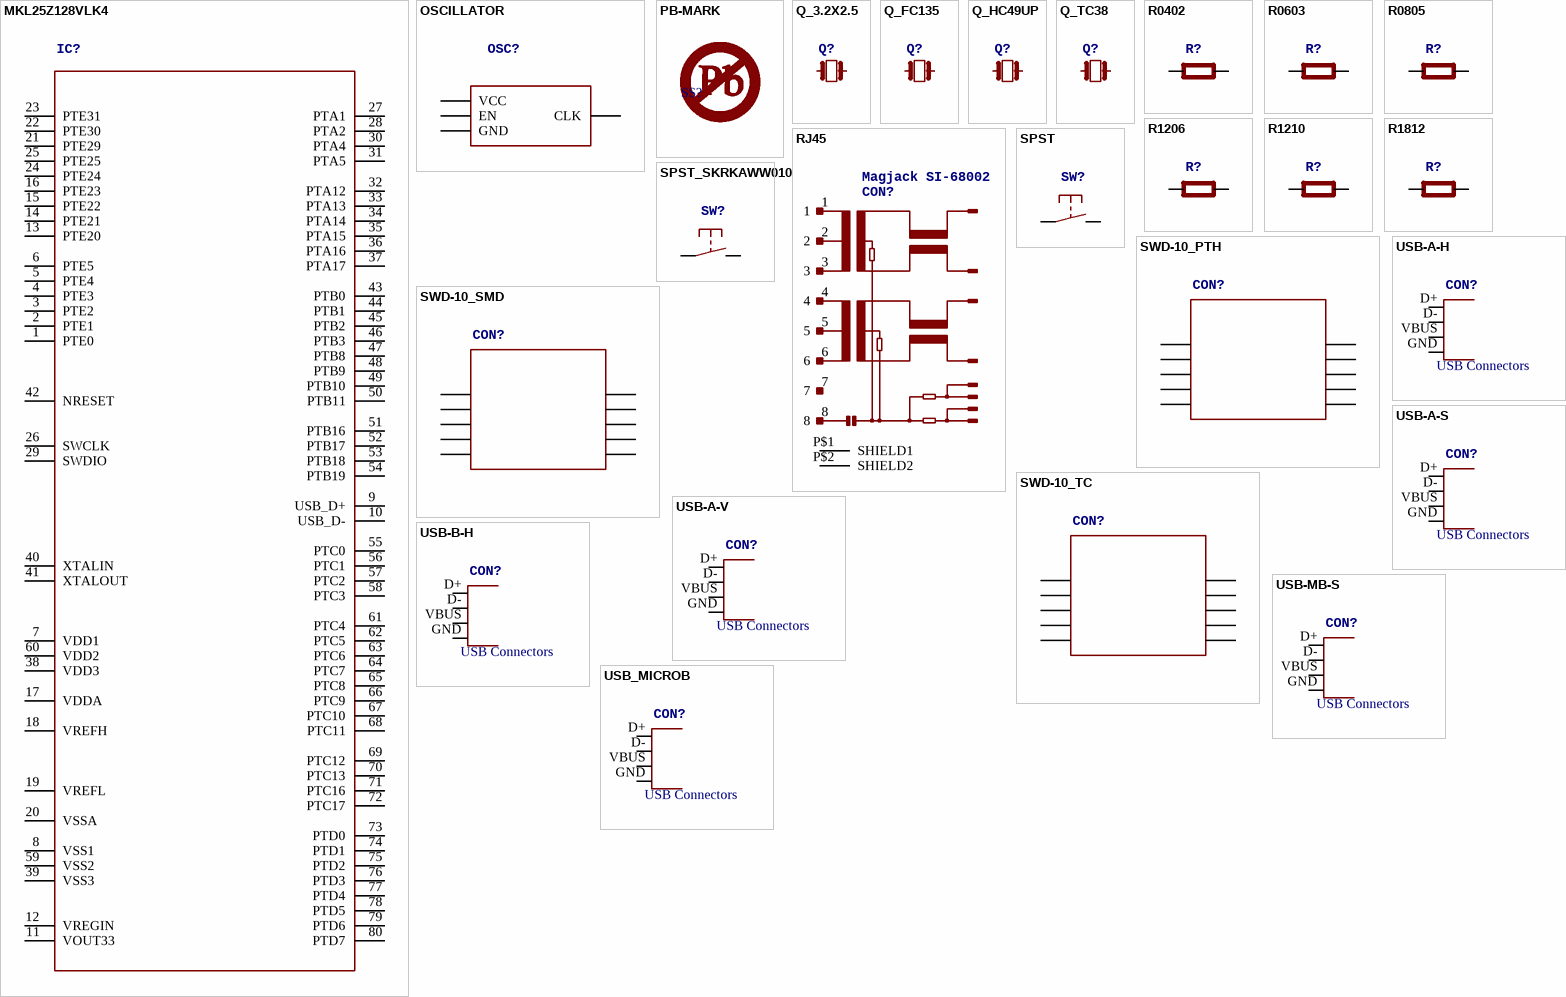
[diagram p6: symbols MKL25Z128VLK4 to USB_MICROB]

## MKL25Z128VLK4
designator IC?
footprint LQFP80
pins: 1 PTE0, 2 PTE1, 3 PTE2, 4 PTE3, 5 PTE4, 6 PTE5, 7 VDD1, 8 VSS1, 9 USB_D+, 10 USB_D-, 11 VOUT33, 12 VREGIN, 13 PTE20, 14 PTE21, 15 PTE22, 16 PTE23, 17 VDDA, 18 VREFH, 19 VREFL, 20 VSSA, 21 PTE29, 22 PTE30, 23 PTE31, 24 PTE24, 25 PTE25, 26 SWCLK, 27 PTA1, 28 PTA2, 29 SWDIO, 30 PTA4, 31 PTA5, 32 PTA12, 33 PTA13, 34 PTA14, 35 PTA15, 36 PTA16, 37 PTA17, 38 VDD3, 39 VSS3, 40 XTALIN, 41 XTALOUT, 42 NRESET, 43 PTB0, 44 PTB1, 45 PTB2, 46 PTB3, 47 PTB8, 48 PTB9, 49 PTB10, 50 PTB11, 51 PTB16, 52 PTB17, 53 PTB18, 54 PTB19, 55 PTC0, 56 PTC1, 57 PTC2, 58 PTC3, 59 VSS2, 60 VDD2, 61 PTC4, 62 PTC5, 63 PTC6, 64 PTC7, 65 PTC8, 66 PTC9, 67 PTC10, 68 PTC11, 69 PTC12, 70 PTC13, 71 PTC16, 72 PTC17, 73 PTD0, 74 PTD1, 75 PTD2, 76 PTD3, 77 PTD4, 78 PTD5, 79 PTD6, 80 PTD7

## OSCILLATOR
designator OSC?
footprint 3.2X.2.5
pins: P$1 EN, P$2 GND, P$3 CLK, P$4 VCC

## PB-MARK
designator SS?
footprint PB-MARK-0.2

## Q_3.2X2.5
designator Q?
footprint 3.2X.2.5
pins: P$1 1, P$3 2

## Q_FC135
designator Q?
footprint FC135
pins: X1 1, X2 2

## Q_HC49UP
designator Q?
footprint HC49UP
pins: 1, 2

## Q_TC38
designator Q?
footprint TC38
pins: + 1, - 2

## R0402
designator R?
footprint 0402
pins: 1 P$1, 2 P$2

## R0603
designator R?
footprint 0603
pins: 1 P$1, 2 P$2

## R0805
designator R?
footprint 0805
pins: 1 P$1, 2 P$2

## R1206
designator R?
footprint C1206
pins: 1 P$1, 2 P$2

## R1210
designator R?
footprint C1210
pins: 1 P$1, 2 P$2

## R1812
designator R?
footprint C1812
pins: 1 P$1, 2 P$2

## RJ45
designator CON?, comment Magjack SI-68002
footprint RJ45
pins: 1, 2, 3, 4, 5, 6, 7, 8, P$1 SHIELD1, P$2 SHIELD2

## SPST
designator SW?
footprint DTSM-32S-B
pins: P$1 P, P$2 S

## SPST_SKRKAWW010
designator SW?
footprint SKRKAEE010
pins: P$1 P, P$2 S

## SWD-10_PTH
designator CON?
footprint SWD-10-PTH
pins: 1 P$1, 2 P$2, 3 P$3, 4 P$4, 5 P$5, 6 P$6, 7 P$7, 8 P$8, 9 P$9, 10 P$10

## SWD-10_SMD
designator CON?
footprint SWD-10-SMD
pins: P$1, P$2, P$3, P$4, P$5, P$6, P$7, P$8, P$9, P$10

## SWD-10_TC
designator CON?
footprint SWD-10-TAGCONNECT
pins: P$1, P$2, P$3, P$4, P$5, P$6, P$7, P$8, P$9, P$10

## USB-A-H
designator CON?, comment USB Connectors
footprint USB-A-H
pins: D+, D-, GND, VBUS

## USB-A-S
designator CON?, comment USB Connectors
footprint USB-A-S
pins: D+, D-, GND, VBUS

## USB-A-V
designator CON?, comment USB Connectors
footprint USB-A-V
pins: D+, D-, GND, VBUS

## USB-B-H
designator CON?, comment USB Connectors
footprint USB-B-H
pins: D+, D-, GND, VBUS

## USB-MB-S
designator CON?, comment USB Connectors
footprint USB-MB-S
pins: D+, D-, GND, VBUS

## USB_MICROB
designator CON?, comment USB Connectors
footprint MOLEX-47364-0001
pins: D+, D-, GND, VBUS